# Altium schematic symbol library BQ24100.SchLib: 1 symbol
Pins are listed as number, name and electrical type; pins without a type are passive.

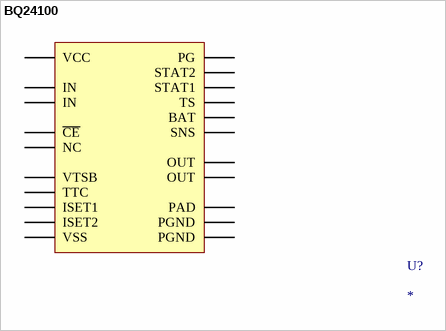
[diagram p0: symbol BQ24100]

## BQ24100
designator U?
pins: 1 OUT, 2 STAT1, 3 IN, 4 IN, 5 PG, 6 VCC, 7 TTC, 8 ISET1, 9 ISET2, 10 VSS, 11 VTSB, 12 TS, 13 NC, 14 BAT, 15 SNS, 16 ~{CE}, 17 PGND, 18 PGND, 19 STAT2, 20 OUT, 21 PAD